# Altium schematic symbol library OSC_ASFL.SchLib: 1 symbol
Pins are listed as number, name and electrical type; pins without a type are passive.

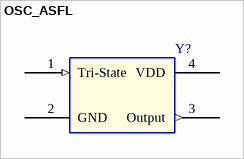
[diagram p0: symbol OSC_ASFL]

## OSC_ASFL
designator Y?
OSC XO 50MHZ 3.3V SMD
pins: 1 Tri-State (in), 2 GND (power), 3 Output (out), 4 VDD (power)